# Altium schematic symbol library IRLB4132PBF.SchLib: 1 symbol
Pins are listed as number, name and electrical type; pins without a type are passive.

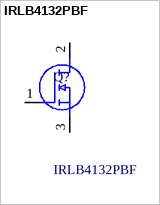
[diagram p0: symbol IRLB4132PBF]

## IRLB4132PBF
designator Q?
MOSFET TRENCH <= 40V HEXFET Power MOSFET TO-220AB; Manufacturer_Name: Infineon; Geometry.Height: 4.83mm; Mouser Part Number: 942-IRLB4132PBF; Mouser Price/Stock: https://www.mouser.co.uk/ProductDetail/Infineon-Technologies/IRLB4132PBF?qs=7jf4hlN%252BSJAw3gjmC05T%2Fw%3D%3D; Manufacturer_Part_Number: IRLB4132PBF; Datasheet Link: https://4donline.ihs.com/images/VipMasterIC/IC/INFN/INFN-S-A0008993592/INFN-S-A0008993592-1.pdf?hkey=6D3A4C79FDBF58556ACFDE234799DDF0
footprint TO254P483X1016X1994-3P
pins: 1 G, 2 D, 3 S